# EAGLE library part DISPLAY-NOKIA-3310-CHN (library AQS)
84x48 Dot Matrix LCD Module based on Nokia 3310 display More details available here: https://arduinoandsoftware.wordpress.com/2012/12/30/nokia-33105110-3-3v-display-with-5v-arduino/
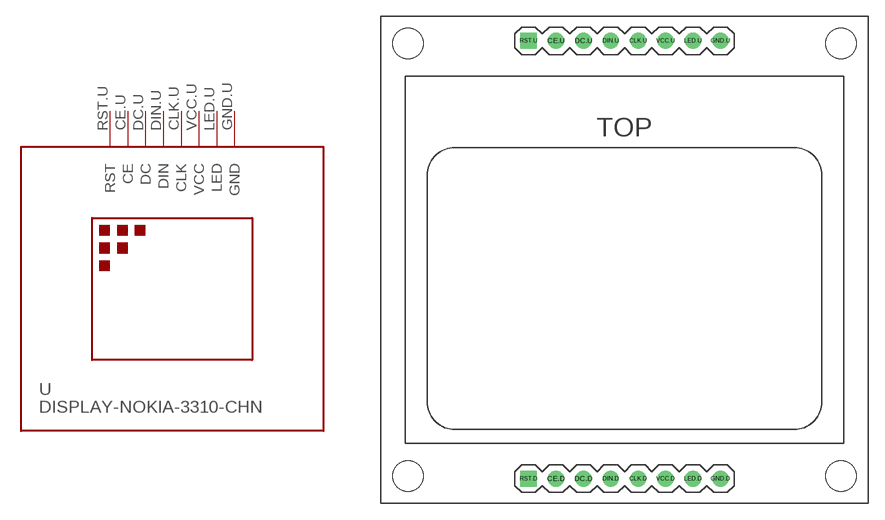
[diagram p4: symbol with the pads of DISPLAY-NOKIA-3310-CHN; footprint DISPLAY-NOKIA-3310-CHN]

Designator prefix -

## DISPLAY-NOKIA-3310-CHN  [DISPLAY-NOKIA-3310-CHN]
CE.U  CE  in
CLK.U  CLK
DC.U  DC
DIN.U  DIN
GND.U  GND  pwr
LED.U  LED
RST.U  RST  in
VCC.U  VCC  pwr

## Footprint DISPLAY-NOKIA-3310-CHN (pad centres in mm)
84x48 Dot Matrix LCD Module based on Nokia 3310 display
drill 1: CE.D -6.35,-20.32; CE.U -6.35,20.32; CLK.D 1.27,-20.32; CLK.U 1.27,20.32; DC.D -3.81,-20.32; DC.U -3.81,20.32; DIN.D -1.27,-20.32; DIN.U -1.27,20.32; GND.D 8.89,-20.32; GND.U 8.89,20.32; LED.D 6.35,-20.32; LED.U 6.35,20.32; VCC.D 3.81,-20.32; VCC.U 3.81,20.32
drill 1 square: RST.D -8.89,-20.32; RST.U -8.89,20.32
hole 2.8 at -20.066,-20.066
hole 2.8 at 20.066,-20.066
hole 2.8 at 20.066,20.066
hole 2.8 at -20.066,20.066